# Altium integrated library AD Comm Clock Data Recovery.IntLib: 1 symbol
Pins are listed as number, name and electrical type; pins without a type are passive.

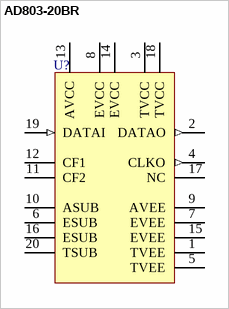
[diagram p0: symbol AD803-20BR]

## AD803-20BR
designator U?
Clock Recovery and Data Retiming Phase-Locked Loop; Note: Pins 3, 8, 14 & 18 are Digital VCC; Pin 13 is Analog VCC; Pins 7 & 15 are Digital VEE; Pin 9 is Analog VEE; Pins 1& 5 are Digital Ground; Pins 6, 16 & 20 are Digital Substrate; Pin 10 is Analog Substrate.; Published: 8-Jun-2000; LatestRevisionDate: 13-Apr-2006; LatestRevisionNote: IPC-7351 Footprint Added.; DatasheetVersion: Rev.0 1997; PackageReference: R-20; Publisher: Altium Limited; PackageDescription: 20-Pin Small Outline Integrated Circuit 1.27 mm Pitch; Code_JEDEC: MS-013-AC; Code_IPC: SOIC127P1030-20; ComponentLink1Description: Manufacturer Link; ComponentLink1URL: http://www.analog.com/
footprint R-20_N (SOIC, 20-Leads, Body 12.8x7.5mm, Pitch 1.27mm, IPC Medium Density)
footprint R-20_L (SOIC, 20-Leads, Body 12.8x7.5mm, Pitch 1.27mm, IPC High Density)
footprint R-20_M (SOIC, 20-Leads, Body 12.8x7.5mm, Pitch 1.27mm, IPC Low Density)
3D model R-20 (20-Pin Small Outline Integrated Circuit 1.27 mm Pitch)
pins: 1 TVEE (power), 2 DATAO (out), 3 TVCC (power), 4 CLKO (out), 5 TVEE (power), 6 ESUB, 7 EVEE (power), 8 EVCC (power), 9 AVEE (power), 10 ASUB, 11 CF2, 12 CF1, 13 AVCC (power), 14 EVCC (power), 15 EVEE (power), 16 ESUB, 17 NC, 18 TVCC (power), 19 DATAI (in), 20 TSUB